# Altium footprint library elec_10uF_cap.PcbLib: 1 footprints
Each footprint in its own frame and in the unit in brackets; x right, y up, seen from the top. Pads: shape width x height; smd on the part's side, far side on the other; paste and mask are expansions set on the pad; w line width, h text height; cw(c..) or ccw(c..) is an arc to the next point about the centre after c.
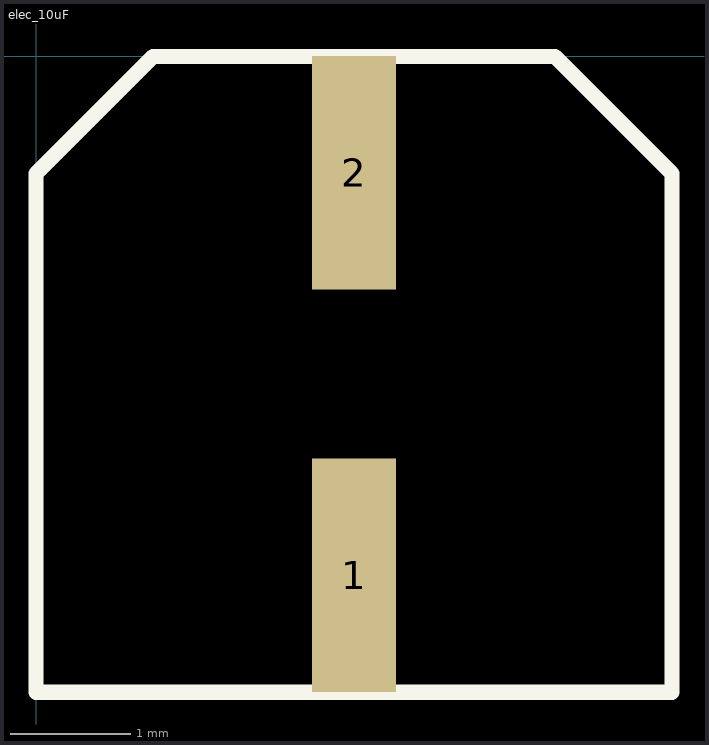
[diagram p0: the footprint, top view; thin cyan lines are the x and y axes]

## elec_10uF [mm]
pads (2):
  rect 0.7x1.95 smd mask+0.102: 1(2.65,-4.325) 2(2.65,-0.97)
Top Overlay:
  lines w0.127: 0,-5.3 0,-0.975 0.975,0 4.325,0 5.3,-0.975 5.3,-5.3 0,-5.3